# EAGLE library part D2-SUPERCHIP (library ecs-parts)
D2-Superchip UoS 2017
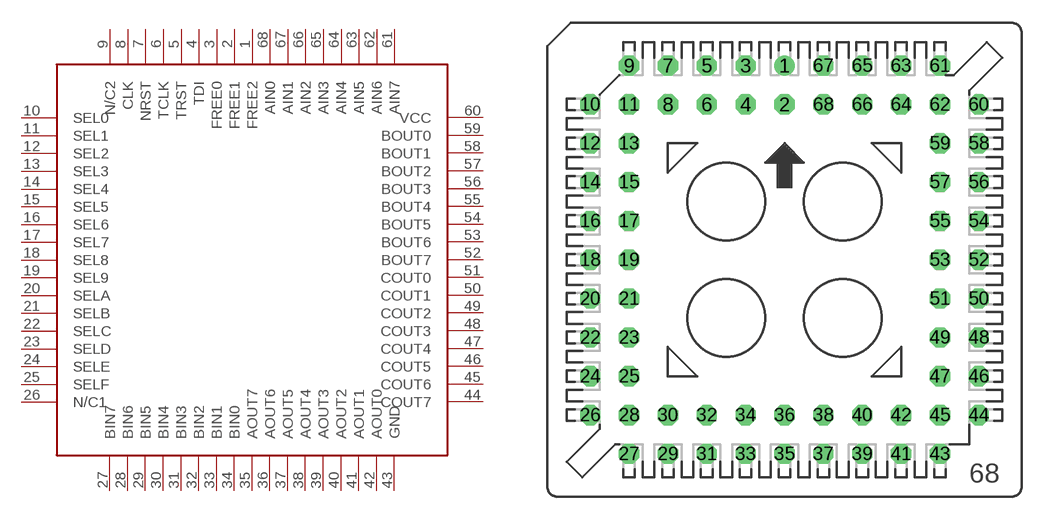
[diagram p1: symbol with the pads of S68; footprint S68]

Designator prefix -

## D2-SUPERCHIP  [S68]
1  FREE2
2  FREE1
3  FREE0
4  TDI
5  TRST
6  TCLK
7  NRST
8  CLK
9  N/C2
10  SEL0
11  SEL1
12  SEL2
13  SEL3
14  SEL4
15  SEL5
16  SEL6
17  SEL7
18  SEL8
19  SEL9
20  SELA
21  SELB
22  SELC
23  SELD
24  SELE
25  SELF
26  N/C1
27  BIN7
28  BIN6
29  BIN5
30  BIN4
31  BIN3
32  BIN2
33  BIN1
34  BIN0
35  AOUT7
36  AOUT6
37  AOUT5
38  AOUT4
39  AOUT3
40  AOUT2
41  AOUT1
42  AOUT0
43  GND
44  COUT7
45  COUT6
46  COUT5
47  COUT4
48  COUT3
49  COUT2
50  COUT1
51  COUT0
52  BOUT7
53  BOUT6
54  BOUT5
55  BOUT4
56  BOUT3
57  BOUT2
58  BOUT1
59  BOUT0
60  VCC
61  AIN7
62  AIN6
63  AIN5
64  AIN4
65  AIN3
66  AIN2
67  AIN1
68  AIN0

## Footprint S68 (pad centres in mm)
PLCC SOCKET
drill 0.813: 1 0,12.7
drill 0.813 octagon: 2 0,10.16; 3 -2.54,12.7; 4 -2.54,10.16; 5 -5.08,12.7; 6 -5.08,10.16; 7 -7.62,12.7; 8 -7.62,10.16; 9 -10.16,12.7; 10 -12.7,10.16; 11 -10.16,10.16; 12 -12.7,7.62; 13 -10.16,7.62; 14 -12.7,5.08; 15 -10.16,5.08; 16 -12.7,2.54; 17 -10.16,2.54; 18 -12.7,0; 19 -10.16,0; 20 -12.7,-2.54; 21 -10.16,-2.54; 22 -12.7,-5.08; 23 -10.16,-5.08; 24 -12.7,-7.62; 25 -10.16,-7.62; 26 -12.7,-10.16; 27 -10.16,-12.7; 28 -10.16,-10.16; 29 -7.62,-12.7; 30 -7.62,-10.16; 31 -5.08,-12.7; 32 -5.08,-10.16; 33 -2.54,-12.7; 34 -2.54,-10.16; 35 0,-12.7; 36 0,-10.16; 37 2.54,-12.7; 38 2.54,-10.16; 39 5.08,-12.7; 40 5.08,-10.16; 41 7.62,-12.7; 42 7.62,-10.16; 43 10.16,-12.7; 44 12.7,-10.16; 45 10.16,-10.16; 46 12.7,-7.62; 47 10.16,-7.62; 48 12.7,-5.08; 49 10.16,-5.08; 50 12.7,-2.54; 51 10.16,-2.54; 52 12.7,0; 53 10.16,0; 54 12.7,2.54; 55 10.16,2.54; 56 12.7,5.08; 57 10.16,5.08; 58 12.7,7.62; 59 10.16,7.62; 60 12.7,10.16; 61 10.16,12.7; 62 10.16,10.16; 63 7.62,12.7; 64 7.62,10.16; 65 5.08,12.7; 66 5.08,10.16; 67 2.54,12.7; 68 2.54,10.16